# EAGLE library part DIP_SWITCH_5 (library drag-custom)
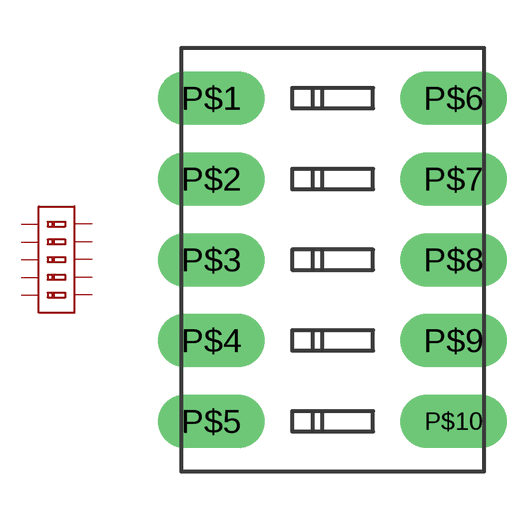
[diagram p9: symbol with the pads of DIP_SWITCH_5; footprint DIP_SWITCH_5]

Designator prefix -

## DIP_SWITCH_5  [DIP_SWITCH_5]
P$1  P$1
P$2  P$2
P$3  P$3
P$4  P$4
P$5  P$5
P$6  P$6
P$7  P$7
P$8  P$8
P$9  P$9
P$10  P$10

## Footprint DIP_SWITCH_5 (pad centres in mm)
drill 0.9 pad 1.676 long: P$1 -2.54,5.08; P$2 -2.54,2.54; P$3 -2.54,0; P$4 -2.54,-2.54; P$5 -2.54,-5.08; P$6 5.08,5.08; P$7 5.08,2.54; P$8 5.08,0; P$9 5.08,-2.54; P$10 5.08,-5.08